# Altium schematic symbol library SCH - OPTOISOLATORS - OPTOISOLATOR.SCHLIB: 3 symbols
Pins are listed as number, name and electrical type; pins without a type are passive.

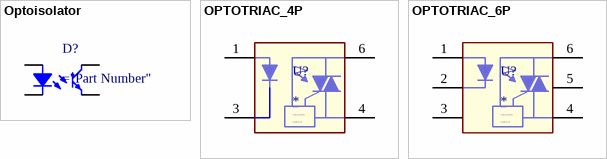
[diagram p0: symbols Optoisolator to OPTOTRIAC_6P]

## Optoisolator
designator D?
pins: 1, 2, 3, 4

## OPTOTRIAC_4P
designator U?
OPTOISOLATOR ZERO CROSSING CIRCUIT
pins: 1 A, 3, 4 MT1, 6 MT2
text: ZERO; CROSSING; CIRCUIT

## OPTOTRIAC_6P
designator U?
OPTOISOLATOR ZERO CROSSING CIRCUIT
pins: 1 A, 2 C, 3, 4 MT1, 5, 6 MT2
text: ZERO; CROSSING; CIRCUIT